# EAGLE library part HEADER_POS7_? (library con-molex-micro-fit-3_0)
Molex - Micro-Fit 3.0 Series connector, 3.00mm (0.118") pitch header, 7 positions.
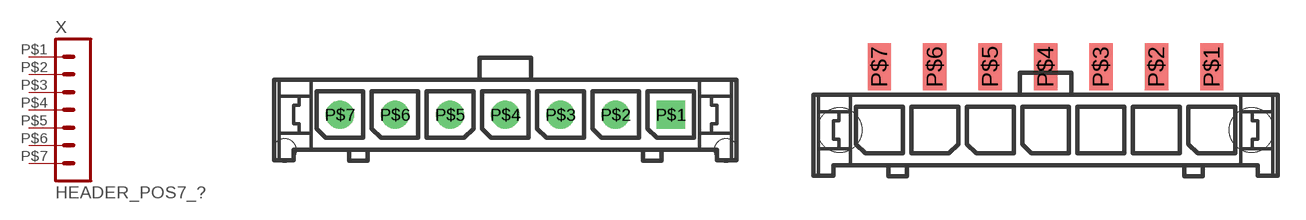
[diagram p1: symbol with the pads of 43650-0715; footprints 43650-0715, 43650-0721]

Designator prefix X

## HEADER_POS7_43650-0715  [43650-0715]
P$1  1  pas
P$2  2  pas
P$3  3  pas
P$4  4  pas
P$5  5  pas
P$6  6  pas
P$7  7  pas

## HEADER_POS7_43650-0721  [43650-0721]
Pads as for 43650-0715

## HEADER_POS7_43650-0724  [43650-0724]
Pads as for 43650-0715

## HEADER_POS7_43650-0700  [43650-0700]
Pads as for 43650-0715

## HEADER_POS7_43650-0709  [43650-0709]
P$1  2  pas
P$2  1  pas
P$3  3  pas
P$4  4  pas
P$5  5  pas
P$6  6  pas
P$7  7  pas

## HEADER_POS7_43650-0712  [43650-0712]
Pads as for 43650-0715

## Footprint 43650-0715 (pad centres in mm)
Molex Micro-Fit 3.0 - Header Shrouded, Thru hole, Vertical, with Pegs; P/N: SD-43650-0715, SD-43650-0716, SD-43650-0717 http://www.molex.com/pdm_docs/sd/436500215_sd.pdf
drill 1.02 square: P$1 9,0
drill 1.02: P$2 6,0; P$3 3,0; P$4 0,0; P$5 -3,0; P$6 -6,0; P$7 -9,0
hole 1.27 at 12,-1.96
hole 1.27 at -12,-1.96

## Footprint 43650-0721 (pad centres in mm)
Molex Micro-Fit 3.0 - Header Shrouded, Thru hole, Vertical, with Solderable Retention Clips; P/N: SD-43650-0721, SD-43650-0722, SD-43650-0723 http://www.molex.com/pdm_docs/sd/436500221_sd.pdf
smd 1.27 x 2.54: P$1 9,3.43; P$2 6,3.43; P$3 3,3.43; P$4 0,3.43; P$5 -3,3.43; P$6 -6,3.43; P$7 -9,3.43
hole 2.41 at 11.15,0
hole 2.41 at -11.15,0

## Footprint 43650-0724 (pad centres in mm)
Molex Micro-Fit 3.0 - Header Shrouded, Thru hole, Vertical, with Solder Tabs; P/N: SD-43650-0724, SD-43650-0725, SD-43650-0726 http://www.molex.com/pdm_docs/sd/436500224_sd.pdf
smd 1.27 x 2.54: P$1 9.036,3.503; P$2 6.036,3.503; P$3 3.036,3.503; P$4 0.036,3.503; P$5 -2.964,3.503; P$6 -5.964,3.503; P$7 -8.964,3.503
smd 3.43 x 1.65: TAB1 12.926,0.073; TAB2 -12.854,0.073

## Footprint 43650-0700 (pad centres in mm)
Molex Micro-Fit 3.0 - Header Shrouded, Thru hole, Right Angle, with Pegs; P/N: SD-43650-0700, SD-43650-0701, SD-43650-0702 http://www.molex.com/pdm_docs/sd/436500200_sd.pdf
drill 1.02 square: P$1 9,4.32
drill 1.02: P$2 6,4.32; P$3 3,4.32; P$4 0,4.32; P$5 -3,4.32; P$6 -6,4.32; P$7 -9,4.32
hole 3 at 6.85,0
hole 3 at -6.85,0

## Footprint 43650-0709 (pad centres in mm)
Molex Micro-Fit 3.0 - Header Shrouded, Thru hole, Right Angle, with Solderable Retention Clips; P/N: SD-43650-0709, SD-43650-0710, SD-43650-0711 http://www.molex.com/pdm_docs/sd/436500209_sd.pdf
smd 1.27 x 2.92: P$1 9,5.48; P$2 6,5.48; P$3 3,5.48; P$4 0,5.48; P$5 -3,5.48; P$6 -6,5.48; P$7 -9,5.48
hole 2.41 at 11.15,0
hole 2.41 at -11.15,0

## Footprint 43650-0712 (pad centres in mm)
Molex Micro-Fit 3.0 - Header Shrouded, Surface mount, Right Angle, with Solderable tabs; P/N: SD-43650-0712, SD-43650-0713, SD-43650-0714 http://www.molex.com/pdm_docs/sd/436500212_sd.pdf
smd 1.27 x 2.92: P$1 9,5.48; P$2 6,5.48; P$3 3,5.48; P$4 0,5.48; P$5 -3,5.48; P$6 -6,5.48; P$7 -9,5.48
smd 3.43 x 1.65: TAB1 12.88,0; TAB2 -12.88,0